# EAGLE library part STM32F100C6T6B (library Brennon-Loveless-Library)
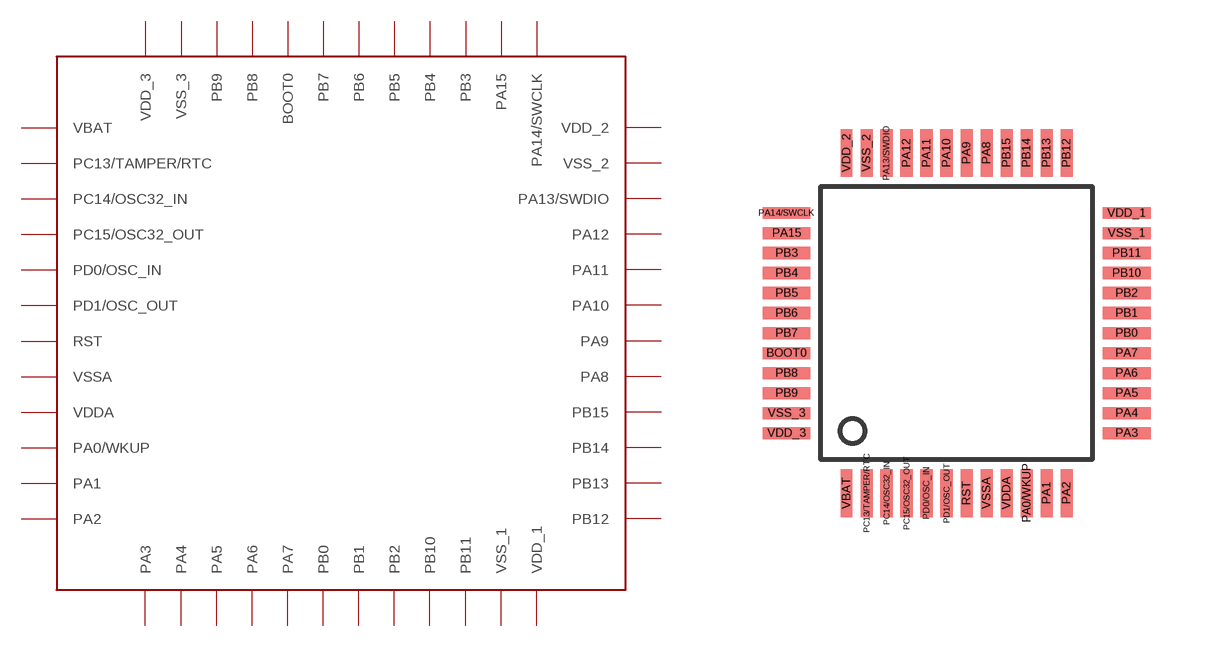
[diagram p0: symbol with the pads of 48-LQFP; footprint 48-LQFP]

Designator prefix -

## STM32F100C6T6B  [48-LQFP]
BOOT0  BOOT0
PA0/WKUP  PA0/WKUP
PA1  PA1
PA2  PA2
PA3  PA3
PA4  PA4
PA5  PA5
PA6  PA6
PA7  PA7
PA8  PA8
PA9  PA9
PA10  PA10
PA11  PA11
PA12  PA12
PA13/SWDIO  PA13/SWDIO
PA14/SWCLK  PA14/SWCLK
PA15  PA15
PB0  PB0
PB1  PB1
PB2  PB2
PB3  PB3
PB4  PB4
PB5  PB5
PB6  PB6
PB7  PB7
PB8  PB8
PB9  PB9
PB10  PB10
PB11  PB11
PB12  PB12
PB13  PB13
PB14  PB14
PB15  PB15
PC13/TAMPER/RTC  PC13/TAMPER/RTC
PC14/OSC32_IN  PC14/OSC32_IN
PC15/OSC32_OUT  PC15/OSC32_OUT
PD0/OSC_IN  PD0/OSC_IN
PD1/OSC_OUT  PD1/OSC_OUT
RST  RST
VBAT  VBAT
VDD_1  VDD_1
VDD_2  VDD_2
VDD_3  VDD_3
VDDA  VDDA
VSS_1  VSS_1
VSS_2  VSS_2
VSS_3  VSS_3
VSSA  VSSA

## Footprint 48-LQFP (pad centres in mm)
smd 1.2 x 0.3: BOOT0 -4.25,-0.75; PA3 4.25,-2.75; PA4 4.25,-2.25; PA5 4.25,-1.75; PA6 4.25,-1.25; PA7 4.25,-0.75; PA14/SWCLK -4.25,2.75; PA15 -4.25,2.25; PB0 4.25,-0.25; PB1 4.25,0.25; PB2 4.25,0.75; PB3 -4.25,1.75; PB4 -4.25,1.25; PB5 -4.25,0.75; PB6 -4.25,0.25; PB7 -4.25,-0.25; PB8 -4.25,-1.25; PB9 -4.25,-1.75; PB10 4.25,1.25; PB11 4.25,1.75; VDD_1 4.25,2.75; VDD_3 -4.25,-2.75; VSS_1 4.25,2.25; VSS_3 -4.25,-2.25
smd 0.3 x 1.2: PA0/WKUP 1.75,-4.25; PA1 2.25,-4.25; PA2 2.75,-4.25; PA8 0.75,4.25; PA9 0.25,4.25; PA10 -0.25,4.25; PA11 -0.75,4.25; PA12 -1.25,4.25; PA13/SWDIO -1.75,4.25; PB12 2.75,4.25; PB13 2.25,4.25; PB14 1.75,4.25; PB15 1.25,4.25; PC13/TAMPER/RTC -2.25,-4.25; PC14/OSC32_IN -1.75,-4.25; PC15/OSC32_OUT -1.25,-4.25; PD0/OSC_IN -0.75,-4.25; PD1/OSC_OUT -0.25,-4.25; RST 0.25,-4.25; VBAT -2.75,-4.25; VDD_2 -2.75,4.25; VDDA 1.25,-4.25; VSS_2 -2.25,4.25; VSSA 0.75,-4.25